# Altium footprint library PcbLib1.PcbLib: 1 footprints
Each footprint in its own frame and in the unit in brackets; x right, y up, seen from the top. Pads: shape width x height; smd on the part's side, far side on the other; paste and mask are expansions set on the pad; w line width, h text height; cw(c..) or ccw(c..) is an arc to the next point about the centre after c.
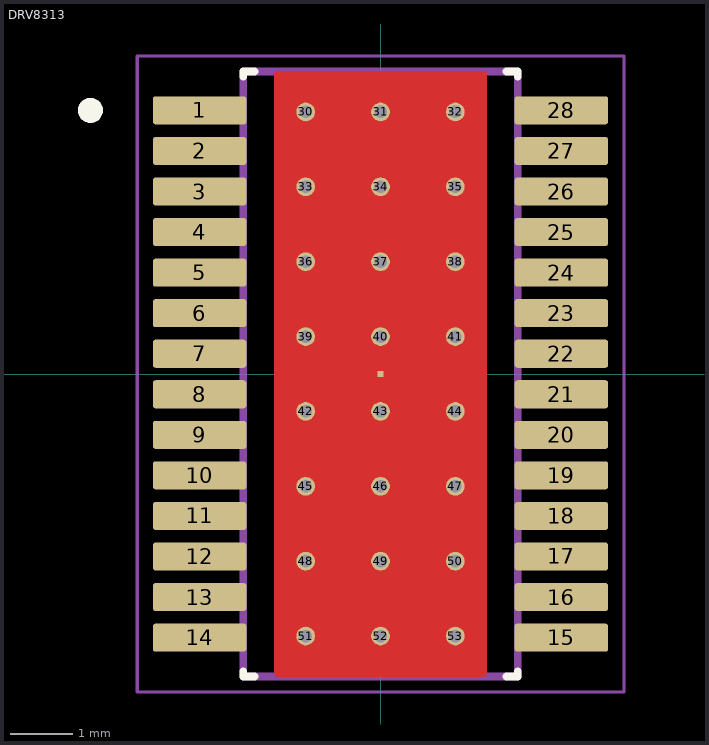
[diagram p0: the footprint, top view; thin cyan lines are the x and y axes]

## DRV8313 [mm]
pads (53):
  rrect20% 1.5x0.45 smd mask+0: 1(-2.9,4.225) 2(-2.9,3.575) 3(-2.9,2.925) 4(-2.9,2.275) 5(-2.9,1.625) 6(-2.9,0.975) 7(-2.9,0.325) 8(-2.9,-0.325) 9(-2.9,-0.975) 10(-2.9,-1.625) 11(-2.9,-2.275) 12(-2.9,-2.925) 13(-2.9,-3.575) 14(-2.9,-4.225) 15(2.9,-4.225) 16(2.9,-3.575) 17(2.9,-2.925) 18(2.9,-2.275) 19(2.9,-1.625) 20(2.9,-0.975) 21(2.9,-0.325) 22(2.9,0.325) 23(2.9,0.975) 24(2.9,1.625) 25(2.9,2.275) 26(2.9,2.925) 27(2.9,3.575) 28(2.9,4.225)
  rect 0.1x0.1 smd paste-1 mask+0: 29(0,0)
  round 0.3 hole 0.2 mask+0: 30(-1.2,4.2) 31(0,4.2) 32(1.2,4.2) 33(-1.2,3) 34(0,3) 35(1.2,3) 36(-1.2,1.8) 37(0,1.8) 38(1.2,1.8) 39(-1.2,0.6) 40(0,0.6) 41(1.2,0.6) 42(-1.2,-0.6) 43(0,-0.6) 44(1.2,-0.6) 45(-1.2,-1.8) 46(0,-1.8) 47(1.2,-1.8) 48(-1.2,-3) 49(0,-3) 50(1.2,-3) 51(-1.2,-4.2) 52(0,-4.2) 53(1.2,-4.2)
Top Layer:
  region: 1.658,4.849 1.66,4.849 1.663,4.848 1.665,4.848 1.668,4.847 1.67,4.846 1.673,4.845 1.675,4.843 1.677,4.842 1.679,4.84 1.681,4.839 1.683,4.837 1.685,4.835 1.687,4.833 1.689,4.831 1.69,4.829 1.692,4.827 1.693,4.825 1.695,4.823 1.696,4.82 1.697,4.818 1.698,4.815 1.698,4.813 1.699,4.81 1.699,4.808 1.7,4.805 1.7,4.803 1.7,4.8 1.7,-4.8 1.7,-4.803 1.7,-4.805 1.699,-4.808 1.699,-4.81 1.698,-4.813 1.698,-4.815 1.697,-4.818 1.696,-4.82 1.695,-4.823 1.693,-4.825 1.692,-4.827 1.69,-4.829 1.689,-4.831 1.687,-4.833 1.685,-4.835 1.683,-4.837 1.681,-4.839 1.679,-4.84 1.677,-4.842 1.675,-4.843 1.673,-4.845 1.67,-4.846 1.668,-4.847 1.665,-4.848 1.663,-4.848 1.66,-4.849 1.658,-4.849 1.655,-4.85 -1.655,-4.85 -1.658,-4.849 -1.66,-4.849 -1.663,-4.848 -1.665,-4.848 -1.668,-4.847 -1.67,-4.846 -1.673,-4.845 -1.675,-4.843 -1.677,-4.842 -1.679,-4.84 -1.681,-4.839 -1.683,-4.837 -1.685,-4.835 -1.687,-4.833 -1.689,-4.831 -1.69,-4.829 -1.692,-4.827 -1.693,-4.825 -1.695,-4.823 -1.696,-4.82 -1.697,-4.818 -1.698,-4.815 -1.698,-4.813 -1.699,-4.81 -1.699,-4.808 -1.7,-4.805 -1.7,-4.803 -1.7,-4.8 -1.7,4.8 -1.7,4.803 -1.7,4.805 -1.699,4.808 -1.699,4.81 -1.698,4.813 -1.698,4.815 -1.697,4.818 -1.696,4.82 -1.695,4.823 -1.693,4.825 -1.692,4.827 -1.69,4.829 -1.689,4.831 -1.687,4.833 -1.685,4.835 -1.683,4.837 -1.681,4.839 -1.679,4.84 -1.677,4.842 -1.675,4.843 -1.673,4.845 -1.67,4.846 -1.668,4.847 -1.665,4.848 -1.663,4.848 -1.66,4.849 -1.658,4.849 -1.655,4.85 1.655,4.85
Top Overlay:
  circle w0.2: c-4.65,4.225 r0.1
  lines w0.127: -2.2,-4.77 -2.2,-4.85 -2.02,-4.85 ; -2.2,4.77 -2.2,4.85 -2.02,4.85 ; 2.02,-4.85 2.2,-4.85 2.2,-4.77 ; 2.02,4.85 2.2,4.85 2.2,4.77
Top Paste:
  region: 1.508,2.589 1.51,2.589 1.513,2.588 1.515,2.588 1.518,2.587 1.52,2.586 1.523,2.585 1.525,2.583 1.527,2.582 1.529,2.58 1.531,2.579 1.533,2.577 1.535,2.575 1.537,2.573 1.539,2.571 1.54,2.569 1.542,2.567 1.543,2.565 1.545,2.563 1.546,2.56 1.547,2.558 1.548,2.555 1.548,2.553 1.549,2.55 1.549,2.548 1.55,2.545 1.55,2.543 1.55,2.54 1.55,-2.54 1.55,-2.543 1.55,-2.545 1.549,-2.548 1.549,-2.55 1.548,-2.553 1.548,-2.555 1.547,-2.558 1.546,-2.56 1.545,-2.563 1.543,-2.565 1.542,-2.567 1.54,-2.569 1.539,-2.571 1.537,-2.573 1.535,-2.575 1.533,-2.577 1.531,-2.579 1.529,-2.58 1.527,-2.582 1.525,-2.583 1.523,-2.585 1.52,-2.586 1.518,-2.587 1.515,-2.588 1.513,-2.588 1.51,-2.589 1.508,-2.589 1.505,-2.59 -1.505,-2.59 -1.508,-2.589 -1.51,-2.589 -1.513,-2.588 -1.515,-2.588 -1.518,-2.587 -1.52,-2.586 -1.523,-2.585 -1.525,-2.583 -1.527,-2.582 -1.529,-2.58 -1.531,-2.579 -1.533,-2.577 -1.535,-2.575 -1.537,-2.573 -1.539,-2.571 -1.54,-2.569 -1.542,-2.567 -1.543,-2.565 -1.545,-2.563 -1.546,-2.56 -1.547,-2.558 -1.548,-2.555 -1.548,-2.553 -1.549,-2.55 -1.549,-2.548 -1.55,-2.545 -1.55,-2.543 -1.55,-2.54 -1.55,2.54 -1.55,2.543 -1.55,2.545 -1.549,2.548 -1.549,2.55 -1.548,2.553 -1.548,2.555 -1.547,2.558 -1.546,2.56 -1.545,2.563 -1.543,2.565 -1.542,2.567 -1.54,2.569 -1.539,2.571 -1.537,2.573 -1.535,2.575 -1.533,2.577 -1.531,2.579 -1.529,2.58 -1.527,2.582 -1.525,2.583 -1.523,2.585 -1.52,2.586 -1.518,2.587 -1.515,2.588 -1.513,2.588 -1.51,2.589 -1.508,2.589 -1.505,2.59 1.505,2.59
Top Solder:
  drawing of 29 lines, arcs and shapes, not listed
Mechanical 13:
  circle w0.2: c-4.65,4.225 r0.1
  lines w0.127: -2.2,-4.85 2.2,-4.85 2.2,4.85 -2.2,4.85 -2.2,-4.85
Mechanical 15:
  lines w0.05: -3.9,-5.1 -3.9,5.1 3.9,5.1 3.9,-5.1 -3.9,-5.1
3D body "step_temp.STEP": height 1.2, standoff 0, extent -3.2,-4.85 3.2,4.85